# Altium footprint library ULN2003.PcbLib: 3 footprints
Each footprint in its own frame and in the unit in brackets; x right, y up, seen from the top. Pads: shape width x height; smd on the part's side, far side on the other; paste and mask are expansions set on the pad; w line width, h text height; cw(c..) or ccw(c..) is an arc to the next point about the centre after c.
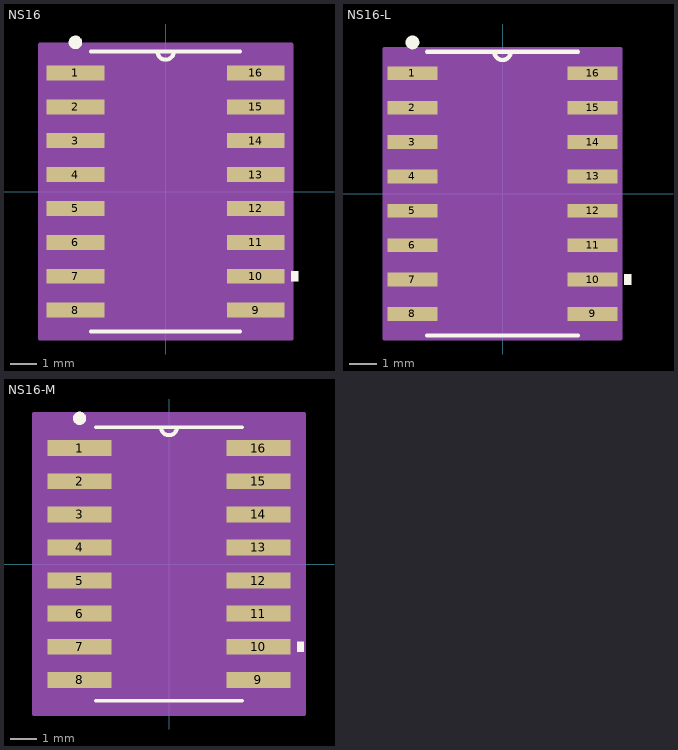
[diagram p0: the footprints below, top view; thin cyan lines are the x and y axes]

## NS16 [mil]
pads (16):
  rect 85x22 smd: 1(-133,175) 2(-133,125) 3(-133,75) 4(-133,25) 5(-133,-25) 6(-133,-75) 7(-133,-125) 8(-133,-175) 9(133,-175) 10(133,-125) 11(133,-75) 12(133,-25) 13(133,25) 14(133,75) 15(133,125) 16(133,175)
Top Overlay:
  circle w10: c-133,220 r5
  region: 185.5,-117.5 195.5,-117.5 195.5,-132.5 185.5,-132.5
  lines w6: -110,-206.5 110,-206.5 ; -110,206.5 110,206.5 ; -12,206.5 ccw(c0,206.5) 12,206.5
Mechanical 13:
  lines w0: -12,206.5 ccw(c0,206.5) 12,206.5
Mechanical 15:
  region: 185.5,-216.5 -185.5,-216.5 -185.5,216.5 185.5,216.5
  lines w6: -185.5,-216.5 -185.5,216.5 185.5,216.5 185.5,-216.5 -185.5,-216.5
3D body "NS16.stp": height 79.1, standoff 0, extent -161.5,-206.5 161.5,206.5

## NS16-L [mil]
pads (16):
  rect 73x20 smd: 1(-131,175) 2(-131,125) 3(-131,75) 4(-131,25) 5(-131,-25) 6(-131,-75) 7(-131,-125) 8(-131,-175) 9(131,-175) 10(131,-125) 11(131,-75) 12(131,-25) 13(131,25) 14(131,75) 15(131,125) 16(131,175)
Top Overlay:
  circle w10: c-131,220 r5
  region: 177.5,-117.5 187.5,-117.5 187.5,-132.5 177.5,-132.5
  lines w6: -110,-206.5 110,-206.5 ; -110,206.5 110,206.5 ; -12,206.5 ccw(c0,206.5) 12,206.5
Mechanical 13:
  lines w0: -12,206.5 ccw(c0,206.5) 12,206.5
Mechanical 15:
  region: 171.5,-210.5 -171.5,-210.5 -171.5,210.5 171.5,210.5
  lines w6: -171.5,-210.5 -171.5,210.5 171.5,210.5 171.5,-210.5 -171.5,-210.5
3D body "NS16-L.stp": height 79.1, standoff 0, extent -161.5,-206.5 161.5,206.5

## NS16-M [mil]
pads (16):
  rect 97x24 smd: 1(-135,175) 2(-135,125) 3(-135,75) 4(-135,25) 5(-135,-25) 6(-135,-75) 7(-135,-125) 8(-135,-175) 9(135,-175) 10(135,-125) 11(135,-75) 12(135,-25) 13(135,25) 14(135,75) 15(135,125) 16(135,175)
Top Overlay:
  circle w10: c-135,220 r5
  region: 193.5,-117.5 203.5,-117.5 203.5,-132.5 193.5,-132.5
  lines w6: -110,-206.5 110,-206.5 ; -110,206.5 110,206.5 ; -12,206.5 ccw(c0,206.5) 12,206.5
Mechanical 13:
  lines w0: -12,206.5 ccw(c0,206.5) 12,206.5
Mechanical 15:
  region: 203.5,-226.5 -203.5,-226.5 -203.5,226.5 203.5,226.5
  lines w6: -203.5,-226.5 203.5,-226.5 203.5,226.5 -203.5,226.5 -203.5,-226.5
3D body "NS16-M.stp": height 79.1, standoff 0, extent -161.5,-206.5 161.5,206.5